# EAGLE library part ZXGD3005E6TA (library diodes-inc-e14)
25V 10A GATE DRIVER IN SOT26
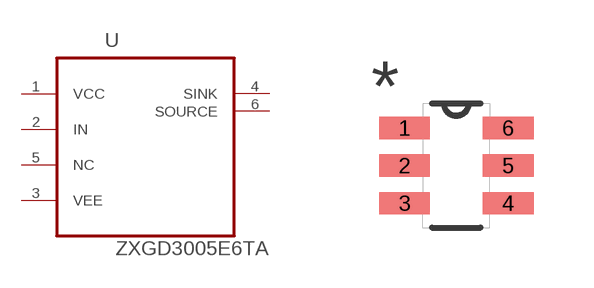
[diagram p50: symbol with the pads of SOT95P280X130-6N; footprint SOT95P280X130-6N]

Designator prefix U

## ZXGD3005E6TA (MPN: ZXGD3005E6TA; OC_FARNELL: 1904033; OC_NEWARK: 55T4050; PACKAGE: SOT-26-6; SUPPLIER: DIODES INC.)  [SOT95P280X130-6N]
1  VCC  pwr
2  IN  in
3  VEE  pwr
4  SINK  out
5  NC  nc
6  SOURCE  out

## Footprint SOT95P280X130-6N (pad centres in mm)
smd 1.27 x 0.559: 1 -1.295,0.94; 2 -1.295,0; 3 -1.295,-0.94; 4 1.295,-0.94; 5 1.295,0; 6 1.295,0.94